# Altium schematic symbol library LED_6PIN_BLU61_GRN52_RED43.SchLib: 1 symbol
Pins are listed as number, name and electrical type; pins without a type are passive.

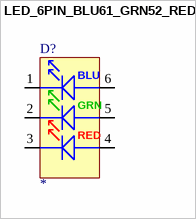
[diagram p0: symbol LED_6PIN_BLU61_GRN52_RED43]

## LED_6PIN_BLU61_GRN52_RED43
designator D?
pins: 1 BC, 2 GC, 3 RC, 4 RA, 5 GA, 6 BA
text: BLU; GRN; RED